# Altium schematic symbol library CAN_TCAN337.Schlib: 1 symbol
Pins are listed as number, name and electrical type; pins without a type are passive.

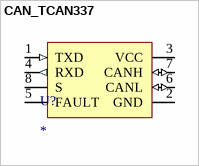
[diagram p0: symbol CAN_TCAN337]

## CAN_TCAN337
designator U?
CAN transceiver with silent and FAULT
pins: 1 TXD (in), 2 GND, 3 VCC, 4 RXD (out), 5 FAULT, 6 CANL (io), 7 CANH (io), 8 S